# Altium schematic symbol library STM32G474PCI6.SchLib: 1 symbol
Pins are listed as number, name and electrical type; pins without a type are passive.

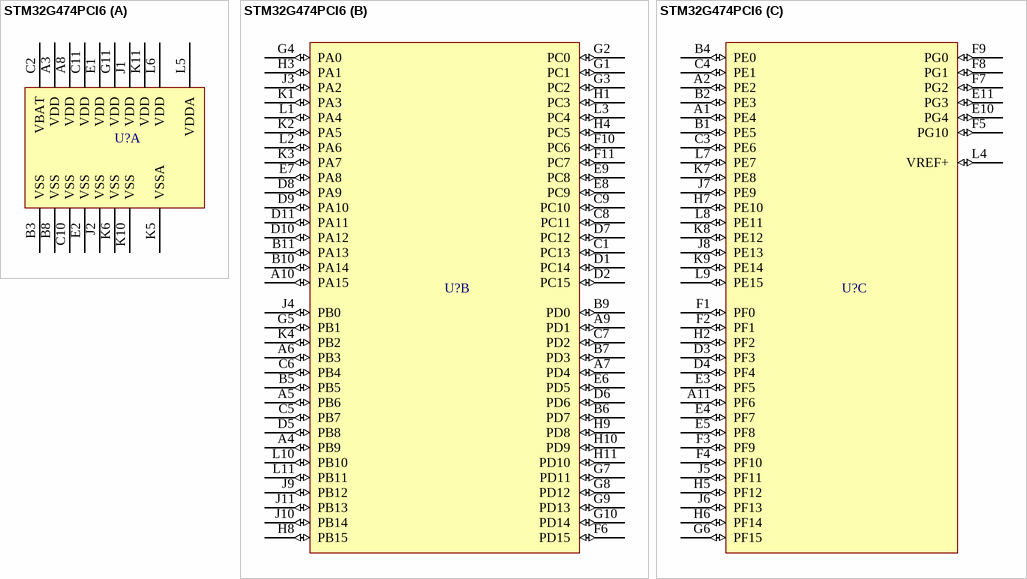
[diagram p0: symbol STM32G474PCI6]

## STM32G474PCI6
designator U?  (value not drawn)
Mainstream Arm Cortex-M4+ MCU 170 MHz with 256 Kbytes of Flash memory, Math Accelerator, HR Timer, High Analog level integration
part A pins: A3 VDD (power), A8 VDD (power), B3 VSS (power), B8 VSS (power), C2 VBAT (power), C10 VSS (power), C11 VDD (power), E1 VDD (power), E2 VSS (power), G11 VDD (power), J1 VDD (power), J2 VSS (power), K5 VSSA (power), K6 VSS (power), K10 VSS (power), K11 VDD (power), L5 VDDA (power), L6 VDD (power)
part B pins: A4 PB9 (io), A5 PB6 (io), A6 PB3 (io), A7 PD4 (io), A9 PD1 (io), A10 PA15 (io), B5 PB5 (io), B6 PD7 (io), B7 PD3 (io), B9 PD0 (io), B10 PA14 (io), B11 PA13 (io), C1 PC13 (io), C5 PB7 (io), C6 PB4 (io), C7 PD2 (io), C8 PC11 (io), C9 PC10 (io), D1 PC14 (io), D2 PC15 (io), D5 PB8 (io), D6 PD6 (io), D7 PC12 (io), D8 PA9 (io), D9 PA10 (io), D10 PA12 (io), D11 PA11 (io), E6 PD5 (io), E7 PA8 (io), E8 PC9 (io), E9 PC8 (io), F6 PD15 (io), F10 PC6 (io), F11 PC7 (io), G1 PC1 (io), G2 PC0 (io), G3 PC2 (io), G4 PA0 (io), G5 PB1 (io), G7 PD11 (io), G8 PD12 (io), G9 PD13 (io), G10 PD14 (io), H1 PC3 (io), H3 PA1 (io), H4 PC5 (io), H8 PB15 (io), H9 PD8 (io), H10 PD9 (io), H11 PD10 (io), J3 PA2 (io), J4 PB0 (io), J9 PB12 (io), J10 PB14 (io), J11 PB13 (io), K1 PA3 (io), K2 PA5 (io), K3 PA7 (io), K4 PB2 (io), L1 PA4 (io), L2 PA6 (io), L3 PC4 (io), L10 PB10 (io), L11 PB11 (io)
part C pins: A1 PE4 (io), A2 PE2 (io), A11 PF6 (io), B1 PE5 (io), B2 PE3 (io), B4 PE0 (io), C3 PE6 (io), C4 PE1 (io), D3 PF3 (io), D4 PF4 (io), E3 PF5 (io), E4 PF7 (io), E5 PF8 (io), E10 PG4 (io), E11 PG3 (io), F1 PF0 (io), F2 PF1 (io), F3 PF9 (io), F4 PF10 (io), F5 PG10 (io), F7 PG2 (io), F8 PG1 (io), F9 PG0 (io), G6 PF15 (io), H2 PF2 (io), H5 PF12 (io), H6 PF14 (io), H7 PE10 (io), J5 PF11 (io), J6 PF13 (io), J7 PE9 (io), J8 PE13 (io), K7 PE8 (io), K8 PE12 (io), K9 PE14 (io), L4 VREF+ (io), L7 PE7 (io), L8 PE11 (io), L9 PE15 (io)